# Altium schematic symbol library Modules.SchLib: 6 symbols
Pins are listed as number, name and electrical type; pins without a type are passive.

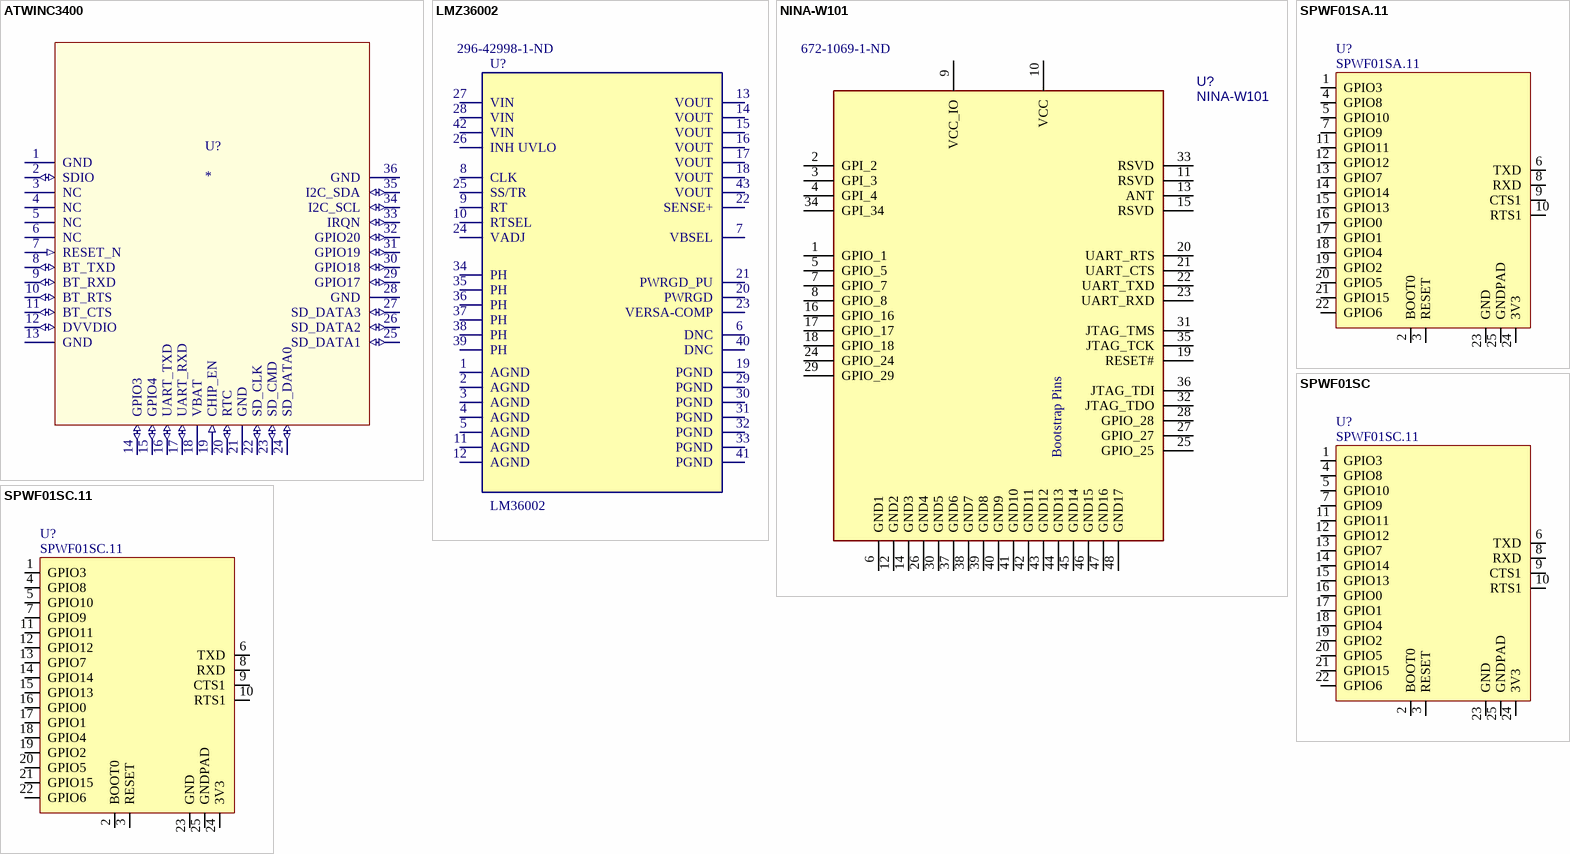
[diagram p0: symbols ATWINC3400 to SPWF01SC.11]

## ATWINC3400
designator U?
Supplier 1: Arrow
footprint ATWINC3400 (WIFI/BLE Module)
pins: 1 GND (power), 2 SDIO (io), 3 NC, 4 NC, 5 NC, 6 NC, 7 RESET_N (in), 8 BT_TXD (io), 9 BT_RXD (io), 10 BT_RTS (io), 11 BT_CTS (io), 12 DVVDIO (io), 13 GND (power), 14 GPIO3 (io), 15 GPIO4 (io), 16 UART_TXD (io), 17 UART_RXD (io), 18 VBAT (power), 19 CHIP_EN (in), 20 RTC (io), 21 GND (power), 22 SD_CLK (io), 23 SD_CMD (io), 24 SD_DATA0 (io), 25 SD_DATA1 (io), 26 SD_DATA2 (io), 27 SD_DATA3 (io), 28 GND (power), 29 GPIO17 (io), 30 GPIO18 (io), 31 GPIO19 (io), 32 GPIO20 (io), 33 IRQN (io), 34 I2C_SCL (io), 35 I2C_SDA (io), 36 GND (power)

## LMZ36002
designator U?, comment LM36002  Supplier Part Number 1: 296-42998-1-ND
Wide VIN Power Module; Manufacturer: Texas Instruments; Manufacturer Part Number: LMZ36002RVQT; Number of Outputs: 1; Voltage - Input (Min): 4.5V; Voltage - Input (Max): 60V; Voltage - Output 1: 2.5 ~ 7.5 V; Current - Output (Max): 2A; Efficiency: 93%; Supplier 1: Digi-Key; Stock 1: 3905; Pricing 1: 1=12.26, 10=11.265, 100=9.5143 (USD); Category: Power Supplies - Board Mount; Family: DC DC Converters; Series: SIMPLE SWITCHER®; Packaging: Tape & Reel (TR); Type: Non-Isolated PoL Module; Voltage - Output 2: -; Voltage - Output 3: -; Power (Watts) - Manufacture Series: -; Voltage - Isolation: -; Applications: ITE (Commercial); Features: OCP, OTP, UVLO; Mounting Type: Surface Mount; Package / Case: 43-QFN; Size / Dimension: 0.39" L x 0.39" W x 0.17" H (10.0mm x 10.0mm x 4.3mm); Operating Temperature: -40°C ~ 105°C; Power (Watts) - Max: -
footprint QFN-43 (PMIC Footprint for specialized TI part)
pins: 1 AGND, 2 AGND, 3 AGND, 4 AGND, 5 AGND, 6 DNC, 7 VBSEL, 8 CLK, 9 RT, 10 RTSEL, 11 AGND, 12 AGND, 13 VOUT, 14 VOUT, 15 VOUT, 16 VOUT, 17 VOUT, 18 VOUT, 19 PGND, 20 PWRGD, 21 PWRGD_PU, 22 SENSE+, 23 VERSA-COMP, 24 VADJ, 25 SS/TR, 26 INH UVLO, 27 VIN, 28 VIN, 29 PGND, 30 PGND, 31 PGND, 32 PGND, 33 PGND, 34 PH, 35 PH, 36 PH, 37 PH, 38 PH, 39 PH, 40 DNC, 41 PGND, 42 VIN, 43 VOUT

## NINA-W101
designator U?  Supplier Part Number 1: 672-1069-1-ND
WiFi and Bluetooth low energy module; Part Description: Stand-alone Bluetooth low energy module; Manufacturer: u-blox; Value: NINA-W101; Supplier 1: Digi-Key
footprint NINA-W101 (WiFi and Bluetooth low energy module)
footprint NINA-W102 (WiFi and Bluetooth low energy module)
pins: 1 GPIO_1, 2 GPI_2, 3 GPI_3, 4 GPI_4, 5 GPIO_5, 6 GND1, 7 GPIO_7, 8 GPIO_8, 9 VCC_IO, 10 VCC, 11 RSVD, 12 GND2, 13 ANT, 14 GND3, 15 RSVD, 16 GPIO_16, 17 GPIO_17, 18 GPIO_18, 19 RESET#, 20 UART_RTS, 21 UART_CTS, 22 UART_TXD, 23 UART_RXD, 24 GPIO_24, 25 GPIO_25, 26 GND4, 27 GPIO_27, 28 GPIO_28, 29 GPIO_29, 30 GND5, 31 JTAG_TMS, 32 JTAG_TDO, 33 RSVD, 34 GPI_34, 35 JTAG_TCK, 36 JTAG_TDI, 37 GND6, 38 GND7, 39 GND8, 40 GND9, 41 GND10, 42 GND11, 43 GND12, 44 GND13, 45 GND14, 46 GND15, 47 GND16, 48 GND17
text: Bootstrap Pins

## SPWF01SA.11
designator U?
Wi-Fi MODULE, Standalone 2.4 GHz IEEE 802.11 b/g/n transceiver, U.FL, Surface Mount PCB Module with antenna; Manufacturer: STMicroelectronics; TZOA PN: 295-00002; Product Training Modules: Internet of Things and the ST Portfolio of Wireless Modules Dynamic NFC / RFID Tag WiFi Modules Overview; Design Resources: Development Tool Selector; RF Family/Standard: WiFi; Modulation: DSSS, OFDM; Frequency: 2.4GHz; Data Rate: 65Mbps; Power - Output: 18.3dBm; Sensitivity: -96dBm; Serial Interfaces: UART; Antenna Type: Integrated, Chip; Memory Size: 1.5MB Flash, 64kB RAM; Voltage - Supply: 3.3V; Current - Receiving: 105mA; Current - Transmitting: 210mA ~ 344mA; Online Catalog: SPWF01SA and SPWF01SC; For Use With: 497-16245-ND                                                          - EVAL BOARD FOR SPWF01SA                                                     497-16087-ND                                                          - EVAL INTERNET OF THINGS WIRELESS                                                     1471-1440-ND                                                          - BOARD WIFI 4 CLICK                                                     497-14640-ND                                                          - DAUGHTERBOARD STM32F0DISCOVERY; Other Names: 497-14636; Supplier 1: Digi-Key; Manufacturer Part Number: SPWF01SA.11; Stock 1: 1440; Pricing 1: 1=14.7, 10=13.3, 100=11.2, 500=9.8, 1000=9.31 (USD); Standard Package: 60; Category: RF/IF and RFID; Family: RF Transceiver Modules; Series: -; Packaging: Tray; Protocol: 802.11b/g/n; Mounting Type: Surface Mount; Operating Temperature: -40°C ~ 85°C; Package / Case: Module; ComponentLink1URL: http://components.arrow.com/part/dataview/0323_07026294; ComponentLink1Description: http://components.arrow.com/part/dataview/0323_07026294; ComponentLink2URL: http://components.arrow.com/part/dataview/58772646S973359N7728; ComponentLink2Description: http://components.arrow.com/part/dataview/58772646S973359N7728; ComponentLink3URL: http://www.st.com/web/en/resource/technical/document/datasheet/DM00102124.pdf; ComponentLink3Description: http://www.st.com/web/en/resource/technical/document/datasheet/DM00102124.pdf; ComponentLink4URL: http://www.st.com/st-web-ui/static/active/en/resource/technical/document/datasheet/DM00102124.pdf; ComponentLink4Description: http://www.st.com/st-web-ui/static/active/en/resource/technical/document/datasheet/DM00102124.pdf; Supplier Part Number 1: 497-14636-ND
footprint SPWF01SC (STM WIFI Module)
pins: 1 GPIO3, 2 BOOT0, 3 RESET, 4 GPIO8, 5 GPIO10, 6 TXD, 7 GPIO9, 8 RXD, 9 CTS1, 10 RTS1, 11 GPIO11, 12 GPIO12, 13 GPIO7, 14 GPIO14, 15 GPIO13, 16 GPIO0, 17 GPIO1, 18 GPIO4, 19 GPIO2, 20 GPIO5, 21 GPIO15, 22 GPIO6, 23 GND, 24 3V3, 25 GNDPAD

## SPWF01SC
designator U?, comment SPWF01SC.11
WIFI Module, U.FL, no antenna; Manufacturer: STMicroelectronics; TZOA PN: 295-00001; Maximum Data Rate: 65000 Kbps; Maximum Operating Frequency: 2400 MHz; Number of Channels: 1; Typical Operating Supply Voltage: 3.3 V; Supplier 1: Digi-Key; Manufacturer Part Number: SPWF01SC.11; Stock 1: 0; Pricing 1: 1020=9.31 (USD); Category: 802.11 Modules; Packaging: Trays; Family: SPWF01SC; Technology: IEEE 802.11b/g/n; Rad Hard: No; Minimum Operating Temperature: -40 °C; Maximum Operating Temperature: 85 °C; Moisture Sensitivity Level: 3; ComponentLink1URL: https://datasheet.ciiva.com/30013/dm00102124-30013370.pdf; ComponentLink1Description: https://datasheet.ciiva.com/30013/dm00102124-30013370.pdf; Supplier Part Number 1: 497-14637-ND
footprint SPWF01SC (STM WIFI Module)
pins: 1 GPIO3, 2 BOOT0, 3 RESET, 4 GPIO8, 5 GPIO10, 6 TXD, 7 GPIO9, 8 RXD, 9 CTS1, 10 RTS1, 11 GPIO11, 12 GPIO12, 13 GPIO7, 14 GPIO14, 15 GPIO13, 16 GPIO0, 17 GPIO1, 18 GPIO4, 19 GPIO2, 20 GPIO5, 21 GPIO15, 22 GPIO6, 23 GND, 24 3V3, 25 GNDPAD

## SPWF01SC.11
designator U?
WIFI Module, U.FL, no antenna; Manufacturer: STMicroelectronics; TZOA PN: 295-00001; Maximum Data Rate: 65000 Kbps; Maximum Operating Frequency: 2400 MHz; Number of Channels: 1; Typical Operating Supply Voltage: 3.3 V; Supplier 1: Digi-Key; Manufacturer Part Number: SPWF01SC.11; Stock 1: 0; Pricing 1: 1020=9.31 (USD); Category: 802.11 Modules; Packaging: Trays; Family: SPWF01SC; Technology: IEEE 802.11b/g/n; Rad Hard: No; Minimum Operating Temperature: -40 °C; Maximum Operating Temperature: 85 °C; Moisture Sensitivity Level: 3; ComponentLink1URL: https://datasheet.ciiva.com/30013/dm00102124-30013370.pdf; ComponentLink1Description: https://datasheet.ciiva.com/30013/dm00102124-30013370.pdf; Supplier Part Number 1: 497-14637-ND
footprint SPWF01SC (STM WIFI Module)
pins: 1 GPIO3, 2 BOOT0, 3 RESET, 4 GPIO8, 5 GPIO10, 6 TXD, 7 GPIO9, 8 RXD, 9 CTS1, 10 RTS1, 11 GPIO11, 12 GPIO12, 13 GPIO7, 14 GPIO14, 15 GPIO13, 16 GPIO0, 17 GPIO1, 18 GPIO4, 19 GPIO2, 20 GPIO5, 21 GPIO15, 22 GPIO6, 23 GND, 24 3V3, 25 GNDPAD